# Altium footprint library PcbLib1.PcbLib: 46 footprints (part 1 of 3)
Each footprint in its own frame and in the unit in brackets; x right, y up, seen from the top. Pads: shape width x height; smd on the part's side, far side on the other; paste and mask are expansions set on the pad; w line width, h text height; cw(c..) or ccw(c..) is an arc to the next point about the centre after c.
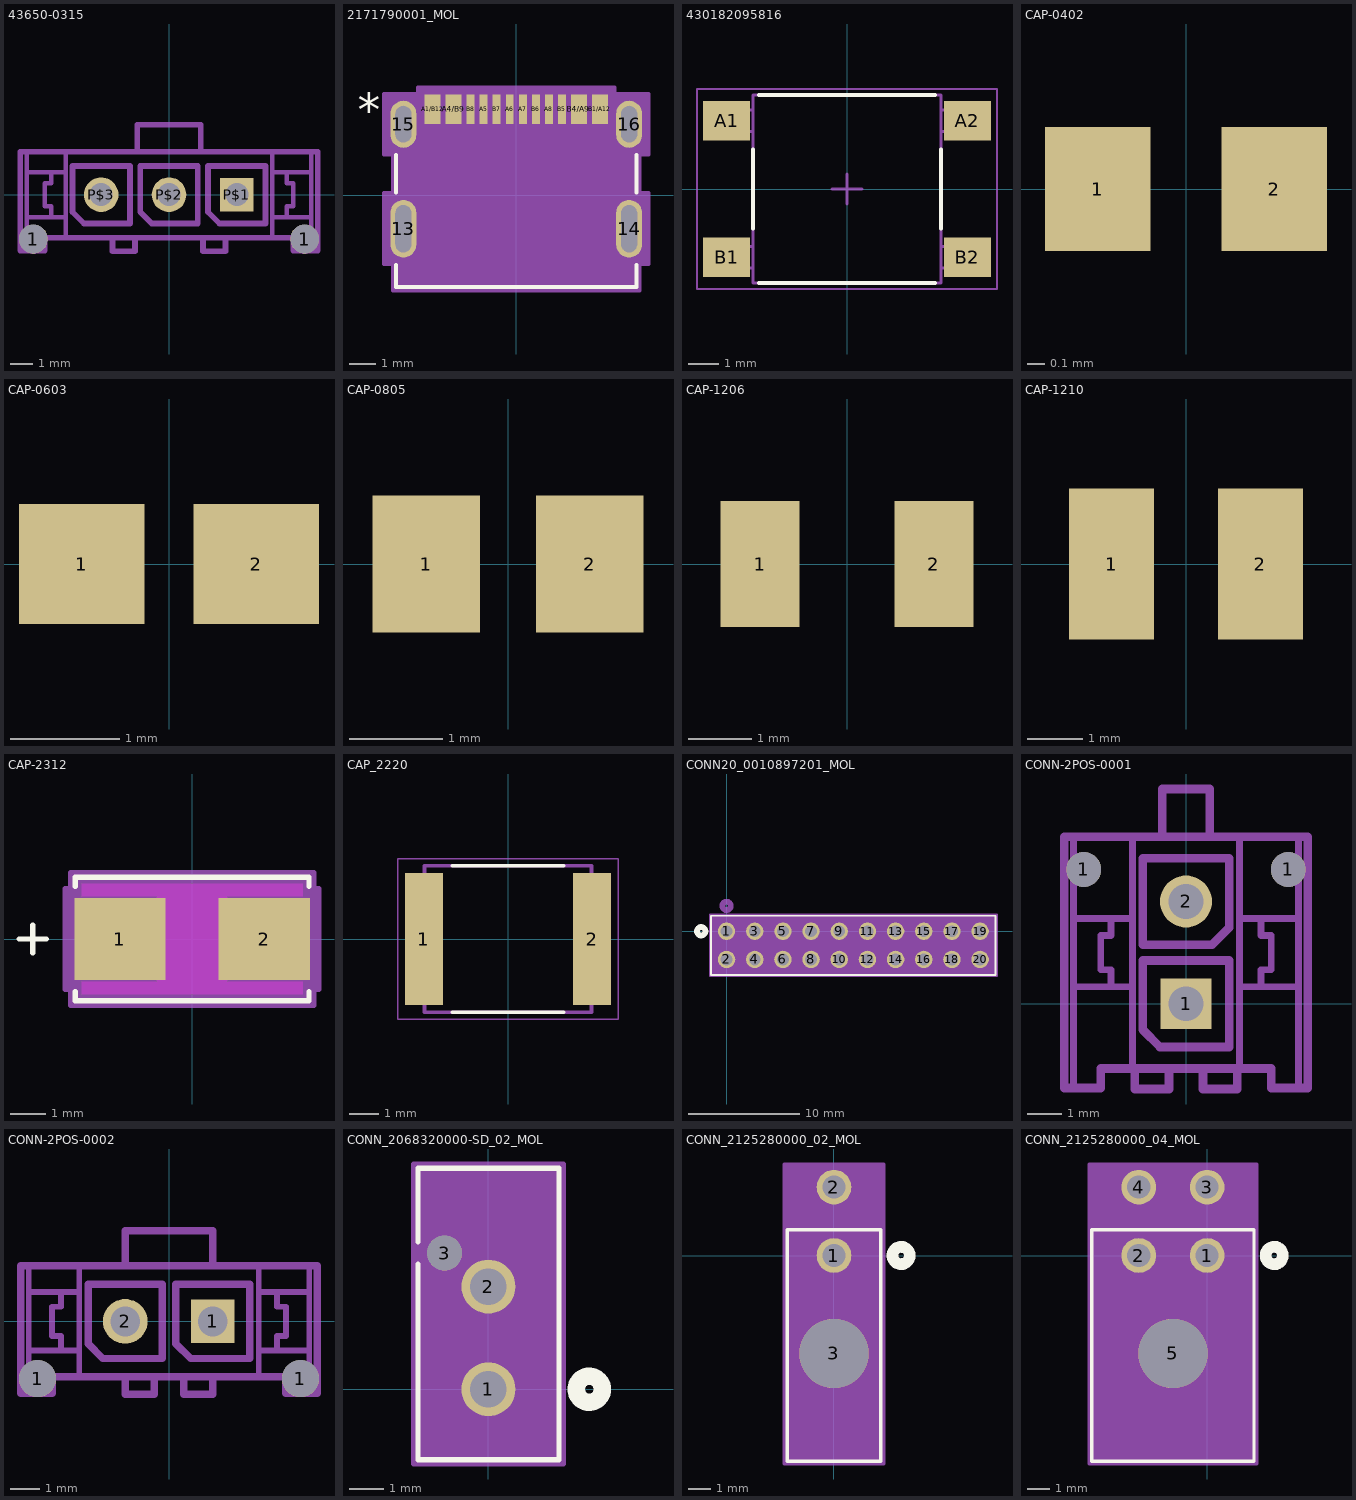
[diagram p0: the footprints below, top view; thin cyan lines are the x and y axes]

## 43650-0315 [mm]
pads (5):
  round 1.27 hole 1.27 unplated: 1(-6,-1.96) 1(6,-1.96)
  rect 1.482x1.482 / inner rect 1.524x1.524 / far side rect 1.482x1.482 hole 1.02: P$1(3,0)
  round 1.53 / inner round 1.524 / far side round 1.53 hole 1.02: P$2(0,0) P$3(-3,0)
Mechanical 22:
  lines w0.2: -6.3,-2.47 -6.3,-1 ; -6.3,1.9 -6.3,1 ; -4.57,-1.9 -4.57,-1 ; -4.57,1.9 -4.57,1 ; 4.57,-1.9 4.57,-1 ; 4.57,1.9 4.57,1 ; 6.3,-2.47 6.3,-1 ; 6.3,1.9 6.3,1 ; -6.3,-1 -5.2,-1 ; -6.3,-1 -6.3,1 ; -6.3,1 -5.2,1 ; -5.2,-1 -5.2,-0.5 -5.5,-0.5 -5.5,0.5 -5.2,0.5 -5.2,1 ; -5.2,-1 -4.57,-1 ; -5.2,1 -4.57,1 ; -4.57,-1 -4.57,1 ; 4.57,-1 5.2,-1 ; 4.57,-1 4.57,1 ; 4.57,1 5.2,1 ; 5.2,-1 5.2,-0.5 5.5,-0.5 5.5,0.5 5.2,0.5 5.2,1 ; 5.2,-1 6.3,-1 ; 5.2,1 6.3,1 ; 6.3,-1 6.3,1
  lines w0.254: -2.5,-1.9 -2.5,-2.5 -1.5,-2.5 -1.5,-1.9 ; -2.5,-1.9 -4.57,-1.9 -5.5,-1.9 -5.5,-2.47 -6.3,-2.47 -6.575,-2.47 -6.575,1.9 -6.3,1.9 -4.57,1.9 -1.4,1.9 ; -2.5,-1.9 -1.5,-1.9 ; -1.5,-1.9 1.5,-1.9 ; -1.4,1.9 -1.4,3.1 1.4,3.1 1.4,1.9 ; -1.4,1.9 1.4,1.9 ; 1.4,1.9 4.57,1.9 6.3,1.9 6.575,1.9 6.575,-2.47 6.3,-2.47 5.5,-2.47 5.5,-1.9 4.57,-1.9 2.5,-1.9 ; 1.5,-1.9 1.5,-2.5 2.5,-2.5 2.5,-1.9 ; 1.5,-1.9 2.5,-1.9 ; -4.27,-0.762 -3.762,-1.27 -1.73,-1.27 -1.73,1.27 -4.27,1.27 -4.27,-0.762 ; -1.27,-0.762 -0.762,-1.27 1.27,-1.27 1.27,1.27 -1.27,1.27 -1.27,-0.762 ; 1.73,-0.762 2.238,-1.27 4.27,-1.27 4.27,1.27 1.73,1.27 1.73,-0.762
3D body "436500316.stp": height 10.03, standoff -3.05, extent -6.325,-2.47 6.325,3.135

## 2171790001_MOL [mil]
pads (16):
  oval 39x87 hole 71 slot 24 at 0 deg paste-99999 mask-43.5: 13(-170.08,-50.07) 14(170.08,-50.07)
  oval 39x71 hole 55 slot 24 at 0 deg paste-99999 mask-35.5: 15(-170.08,107.41) 16(170.08,107.41)
  rect 24x45 smd paste+0 mask+0: A1/B12(-125.98,130.05) A4/B9(-94.49,130.05) B1/A12(125.98,130.05) B4/A9(94.49,130.05)
  rect 12x45 smd paste+0 mask+0: A5(-49.21,130.05) A6(-9.84,130.05) A7(9.84,130.05) A8(49.21,130.05) B5(68.9,130.05) B6(29.53,130.05) B7(-29.53,130.05) B8(-68.9,130.05)
Top Overlay:
  lines w6: -181,-104.79 -181,-138 181,-138 181,-104.79 ; -181,4.65 -181,60.69 ; 181,4.65 181,60.69
  text ".Designator" at -137.5,105.05 h50
  text "*" at -238.48,105.05 h50
Top 3D Body:
  lines w1: -176,-133 -176,133 176,133 176,-133 -176,-133
  text "*" at -238.48,105.05 h50
  text ".Designator" at -137.5,105.05 h50
Top Courtyard:
  region: -186,-103.57 -186,-143 186,-143 186,-103.57 199.58,-103.57 199.58,3.43 186,3.43 186,61.91 199.58,61.91 199.58,152.91 147.98,152.91 147.98,162.55 -147.98,162.55 -147.98,152.91 -199.58,152.91 -199.58,61.91 -186,61.91 -186,3.43 -199.58,3.43 -199.58,-103.57
  lines w6: -199.58,-103.57 -199.58,3.43 -186,3.43 -186,61.91 -199.58,61.91 -199.58,152.91 -147.98,152.91 -147.98,162.55 147.98,162.55 147.98,152.91 199.58,152.91 199.58,61.91 186,61.91 186,3.43 199.58,3.43 199.58,-103.57 186,-103.57 186,-143 -186,-143 -186,-103.57 -199.58,-103.57

## 430182095816 [mm] "SMD Tact Switch, body 6x6mm"
height 9.5
pads (4):
  rect 1.55x1.3 smd: A1(-3.975,2.25) A2(3.975,2.25) B1(-3.975,-2.25) B2(3.975,-2.25)
Top Overlay:
  lines w0.127: -3.1,-1.3 -3.1,1.3 ; -2.9,-3.1 2.9,-3.1 ; -2.9,3.1 2.9,3.1 ; 3.1,-1.3 3.1,1.3
Top Assembly:
  lines w0.1: -3.1,-2.6 -4.5,-2.6 -4.5,-1.9 -3.1,-1.9 ; -3.1,1.9 -4.5,1.9 -4.5,2.6 -3.1,2.6 ; 3.1,-2.6 4.5,-2.6 4.5,-1.9 3.1,-1.9 ; 3.1,1.9 4.5,1.9 4.5,2.6 3.1,2.6 ; -3.1,-3.1 -3.1,3.1 3.1,3.1 3.1,-3.1 -3.1,-3.1
Top Courtyard:
  lines w0.05: -4.95,-3.3 -4.95,3.3 4.95,3.3 4.95,-3.3 -4.95,-3.3
Top Component Center:
  lines w0.1: -0.5,0 0.5,0 ; 0,-0.5 0,0.5
3D body "4301x20958x6.stp": height 9.5, standoff 0, extent -4.5,-3.1 4.5,3.1

## CAP-0402 [mm]
pads (2):
  rect 0.6x0.7 smd: 1(-0.5,0) 2(0.5,0)
3D body "GRM155R71H162JA01J.STEP": height 0.5, standoff 0, extent -0.5,-0.225 0.5,0.225

## CAP-0603 [mm]
pads (2):
  rect 1.15x1.1 smd: 1(-0.8,0) 2(0.8,0)
3D body "LD033A221JAB2A.STEP": height 0.8, standoff -0.01, extent -0.8,-0.45 0.8,0.45

## CAP-0805 [mm]
pads (2):
  rect 1.16x1.47 smd: 1(-0.88,0) 2(0.88,0)
3D body "0805YC103J4T2A.STEP": height 0.94, standoff 0, extent -1.005,-0.625 1.005,0.625

## CAP-1206 [mm]
pads (2):
  rect 1.25x2 smd: 1(-1.375,0) 2(1.375,0)
3D body "GRM31A5C2E272JWA1D.STEP": height 1.5, standoff 0, extent -1.6,-0.8 1.6,0.8

## CAP-1210 [mm]
pads (2):
  rect 1.53x2.72 smd: 1(-1.341,0) 2(1.341,0)
3D body "GRM32EC72A106KE05L.STEP": height 2.7, standoff 0, extent -1.6,-1.25 1.6,1.25

## CAP-2312 [mm]
pads (2):
  rect 2.56x2.3 smd paste+0 mask+0: 1(-2.022,0) 2(2.022,0)
Top Layer keep-out:
  region: -3.099,-1.549 -3.099,-1.201 3.099,-1.201 3.099,-1.549
  region: -3.099,1.201 -3.099,1.549 3.099,1.549 3.099,1.201
  region: -0.991,-1.201 -0.991,1.201 0.991,1.201 0.991,-1.201
Top Overlay:
  lines w0.152: -4.851,0 -4.089,0 ; -4.47,-0.381 -4.47,0.381 ; -3.277,-1.483 -3.277,-1.727 3.277,-1.727 3.277,-1.483 ; -3.277,1.483 -3.277,1.727 3.277,1.727 3.277,1.483
Keep-Out Layer:
  region: -0.991,-1.201 -0.991,1.201 0.991,1.201 0.991,-1.201
Top 3D Body:
  lines w0.025: -4.851,0 -4.089,0 ; -4.47,-0.381 -4.47,0.381 ; -3.15,-1.6 -3.15,1.6 3.15,1.6 3.15,-1.6 -3.15,-1.6
Top Courtyard:
  region: -3.404,-1.404 -3.556,-1.404 -3.556,1.404 -3.404,1.404 -3.404,1.854 3.404,1.854 3.404,1.404 3.556,1.404 3.556,-1.404 3.404,-1.404 3.404,-1.854 -3.404,-1.854
  lines w0.152: -3.556,-1.404 -3.404,-1.404 -3.404,-1.854 3.404,-1.854 3.404,-1.404 3.556,-1.404 3.556,1.404 3.404,1.404 3.404,1.854 -3.404,1.854 -3.404,1.404 -3.556,1.404 -3.556,-1.404
3D body "CAPMP63X32_28N_KEM.step": height 2.85, standoff 0, extent -3.15,-1.6 3.15,1.6

## CAP_2220 [mm]
height 3.1
pads (2):
  rect 1.3x4.5 smd: 1(-2.875,0) 2(2.875,0)
Top Overlay:
  lines w0.127: -1.905,-2.5 1.905,-2.5 ; -1.905,2.5 1.905,2.5
Top 3D Body:
  lines w0.127: -2.85,-2.5 -2.85,2.5 2.85,2.5 2.85,-2.5 -2.85,-2.5
Top Courtyard:
  lines w0.05: -3.775,-2.75 -3.775,2.75 3.775,2.75 3.775,-2.75 -3.775,-2.75
3D body "C5750X5R1A686M230KA.step": height 2.5, standoff 0, extent -2.723,-2.5 2.977,2.5

## CONN20_0010897201_MOL [mil]
pads (20):
  round 62 / inner round 60 / far side round 62 hole 42 paste-99999 mask+0: 1(0,0) 2(0,-100) 3(100,0) 4(100,-100) 5(200,0) 6(200,-100) 7(300,0) 8(300,-100) 9(400,0) 10(400,-100) 11(500,0) 12(500,-100) 13(600,0) 14(600,-100) 15(700,0) 16(700,-100) 17(800,0) 18(800,-100) 19(900,0) 20(900,-100)
Top Overlay:
  circle w20: c-90,0 r15
  lines w6: -55,-155 955,-155 955,55 -55,55 -55,-155
Bottom Overlay:
  circle w20: c-90,0 r15
Top 3D Body:
  circle w20: c0,90 r15
  lines w1: -50,-150 950,-150 950,50 -50,50 -50,-150
Top Courtyard:
  region: 960,60 -60,60 -60,-160 960,-160
  lines w6: -60,-160 -60,60 960,60 960,-160 -60,-160
3D body "010897201.stp": height 329.02, standoff -107.98, extent -51.18,-147.24 948.82,52.76

## CONN-2POS-0001 [mm]
pads (4):
  round 1.02 hole 1.02 unplated: 1(-3,3.94) 1(3,3.94)
  rect 1.482x1.482 / inner rect 1.524x1.524 / far side rect 1.482x1.482 hole 1.02: 1(0,0)
  round 1.53 / inner round 1.524 / far side round 1.53 hole 1.02: 2(0,3)
Bottom 3D Body:
  lines w0.254: -1.27,1.73 -1.27,4.27 1.27,4.27 1.27,2.238 0.762,1.73 -1.27,1.73
Mechanical 22:
  lines w0.2: -3.3,-2.47 -3.3,0.5 ; -3.3,4.9 -3.3,2.5 ; -1.57,-1.9 -1.57,0.5 ; -1.57,4.9 -1.57,2.5 ; 1.57,-1.9 1.57,0.5 ; 1.57,4.9 1.57,2.5 ; 3.3,-2.47 3.3,0.5 ; 3.3,4.9 3.3,2.5 ; -3.3,0.5 -3.3,2.5 ; -3.3,0.5 -2.2,0.5 ; -3.3,2.5 -2.2,2.5 ; -2.2,0.5 -1.57,0.5 ; -2.2,0.5 -2.2,1 -2.5,1 -2.5,2 -2.2,2 -2.2,2.5 ; -2.2,2.5 -1.57,2.5 ; -1.57,0.5 -1.57,2.5 ; 1.57,0.5 1.57,2.5 ; 1.57,0.5 2.2,0.5 ; 1.57,2.5 2.2,2.5 ; 2.2,0.5 3.3,0.5 ; 2.2,0.5 2.2,1 2.5,1 2.5,2 2.2,2 2.2,2.5 ; 2.2,2.5 3.3,2.5 ; 3.3,0.5 3.3,2.5
  lines w0.254: -1.5,-1.9 -0.5,-1.9 ; -1.5,-1.9 -1.57,-1.9 -2.5,-1.9 -2.5,-2.47 -3.3,-2.47 -3.575,-2.47 -3.575,4.9 -3.3,4.9 -1.57,4.9 -0.7,4.9 ; -1.5,-1.9 -1.5,-2.5 -0.5,-2.5 -0.5,-1.9 ; -0.7,4.9 0.7,4.9 ; -0.7,4.9 -0.7,6.3 0.7,6.3 0.7,4.9 ; -0.5,-1.9 0.5,-1.9 ; 0.5,-1.9 1.5,-1.9 ; 0.5,-1.9 0.5,-2.5 1.5,-2.5 1.5,-1.9 ; 0.7,4.9 1.57,4.9 3.3,4.9 3.575,4.9 3.575,-2.47 3.3,-2.47 2.5,-2.47 2.5,-1.9 1.57,-1.9 1.5,-1.9 ; -1.27,-0.762 -1.27,1.27 1.27,1.27 1.27,-1.27 -0.762,-1.27 -1.27,-0.762
3D body "430450212.stp": height 9.91, standoff -3.18, extent -3.575,-2.42 3.575,6.35

## CONN-2POS-0002 [mm]
pads (4):
  round 1.27 hole 1.27 unplated: 1(-4.5,-1.96) 1(4.5,-1.96)
  rect 1.482x1.482 / inner rect 1.524x1.524 / far side rect 1.482x1.482 hole 1.02: 1(1.5,0)
  round 1.53 / inner round 1.524 / far side round 1.53 hole 1.02: 2(-1.5,0)
Mechanical 22:
  lines w0.2: -4.8,-2.47 -4.8,-1 ; -4.8,1.9 -4.8,1 ; -3.07,-1.9 -3.07,-1 ; -3.07,1.9 -3.07,1 ; 3.07,-1.9 3.07,-1 ; 3.07,1.9 3.07,1 ; 4.8,-2.47 4.8,-1 ; 4.8,1.9 4.8,1 ; -4.8,-1 -4.8,1 ; -4.8,-1 -3.7,-1 ; -4.8,1 -3.7,1 ; -3.7,-1 -3.07,-1 ; -3.7,-1 -3.7,-0.5 -4,-0.5 -4,0.5 -3.7,0.5 -3.7,1 ; -3.7,1 -3.07,1 ; -3.07,-1 -3.07,1 ; 3.07,-1 3.07,1 ; 3.07,-1 3.7,-1 ; 3.07,1 3.7,1 ; 3.7,-1 4.8,-1 ; 3.7,-1 3.7,-0.5 4,-0.5 4,0.5 3.7,0.5 3.7,1 ; 3.7,1 4.8,1 ; 4.8,-1 4.8,1
  lines w0.254: -1.5,-1.9 -0.5,-1.9 ; -1.5,-1.9 -3.07,-1.9 -4,-1.9 -4,-2.47 -4.8,-2.47 -5.075,-2.47 -5.075,1.9 -4.8,1.9 -3.07,1.9 -1.5,1.9 ; -1.5,-1.9 -1.5,-2.5 -0.5,-2.5 -0.5,-1.9 ; -1.5,1.9 1.5,1.9 ; -1.5,1.9 -1.5,3.1 1.5,3.1 1.5,1.9 ; -0.5,-1.9 0.5,-1.9 ; 0.5,-1.9 1.5,-1.9 ; 0.5,-1.9 0.5,-2.5 1.5,-2.5 1.5,-1.9 ; 1.5,-1.9 3.07,-1.9 4,-1.9 4,-2.47 4.8,-2.47 5.075,-2.47 5.075,1.9 4.8,1.9 3.07,1.9 1.5,1.9 ; -2.77,-0.762 -2.77,1.27 -0.23,1.27 -0.23,-1.27 -2.262,-1.27 -2.77,-0.762 ; 0.23,-0.762 0.23,1.27 2.77,1.27 2.77,-1.27 0.738,-1.27 0.23,-0.762
3D body "436500215.stp": height 10.03, standoff -3.05, extent -4.825,-2.47 4.825,3.135

## CONN_2068320000-SD_02_MOL [mil]
pads (3):
  round 62 / inner round 60 / far side round 62 hole 42 paste-99999 mask+0: 1(0,0) 2(0,118.11)
  round 40 / inner round 60 / far side round 40 hole 40 unplated paste-99999 mask+0: 3(-50.39,156.69)
Top Overlay:
  circle w20: c116,0 r15
  lines w6: -81,144.09 -81,-80.94 81,-80.94 81,254.06 -81,254.06 -81,169.3
Bottom Overlay:
  circle w20: c116,0 r15
Top 3D Body:
  circle w20: c0,0 r15
  lines w1: -76,-75.94 76,-75.94 76,249.06 -76,249.06 -76,-75.94
Top Courtyard:
  region: 86,259.06 -86,259.06 -86,-85.94 86,-85.94
  lines w6: -86,-85.94 -86,259.06 86,259.06 86,-85.94 -86,-85.94
3D body "2068320201.stp": height 391.93, standoff -123.43, extent -75.79,-75.98 75.79,249.21

## CONN_2125280000_02_MOL [mil]
pads (3):
  round 60 hole 40 paste-99999 mask+0: 1(0,0) 2(0,118.11)
  round 120 hole 120 unplated paste-99999 mask+0: 3(0,-169.29)
Top Overlay:
  circle w20: c116,0 r15
  lines w6: -81,-355.24 81,-355.24 81,44.76 -81,44.76 -81,-355.24
  text ".Designator" at -137.5,34.06 h50
Bottom Overlay:
  circle w20: c116,0 r15
Top 3D Body:
  circle w20: c0,0 r15
  lines w1: -76,-350.24 76,-350.24 76,39.76 -76,39.76 -76,-350.24
  text ".Designator" at -137.5,34.06 h50
Top Courtyard:
  region: 86,158.11 -86,158.11 -86,-360.24 86,-360.24
  lines w6: -86,-360.24 -86,158.11 86,158.11 86,-360.24 -86,-360.24
3D body "2125280200.stp": height 325.2, standoff -149.2, extent -75.79,-350.08 75.79,131.02

## CONN_2125280000_04_MOL [mil]
pads (5):
  round 60 hole 40 paste-99999 mask+0: 1(0,0) 2(-118.11,0) 3(0,118.11) 4(-118.11,118.11)
  round 120 hole 120 unplated paste-99999 mask+0: 5(-59.06,-169.29)
Top Overlay:
  circle w20: c115.94,0 r15
  lines w6: -199.06,-355.24 -199.06,44.76 80.94,44.76 80.94,-355.24 -199.06,-355.24
  text ".Designator" at -196.56,34.06 h50
Bottom Overlay:
  circle w20: c115.94,0 r15
Top 3D Body:
  circle w20: c0,0 r15
  lines w1: -194.06,-350.24 -194.06,39.76 75.94,39.76 75.94,-350.24 -194.06,-350.24
  text ".Designator" at -196.56,34.06 h50
Top Courtyard:
  region: 85.94,158.11 -204.06,158.11 -204.06,-360.24 85.94,-360.24
  lines w6: -204.06,-360.24 85.94,-360.24 85.94,158.11 -204.06,158.11 -204.06,-360.24